# EAGLE library part HC-05 (library HC-05_module)
FEMALE HEADER
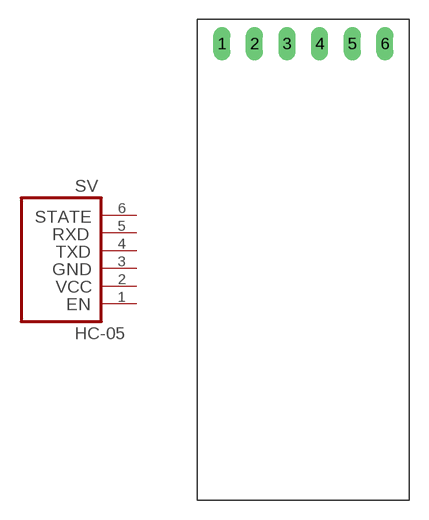
[diagram p0: symbol with the pads of HC-05; footprint HC-05]

Designator prefix SV

## HC-05 (OC_FARNELL: unknown; OC_NEWARK: unknown)  [HC-05]
1  EN  pas
2  VCC  pas
3  GND  pas
4  TXD  pas
5  RXD  pas
6  STATE  pas

## Footprint HC-05 (pad centres in mm)
FEMALE HEADER
drill 0.813 long: 1 -6.35,0; 2 -3.81,0; 3 -1.27,0; 4 1.27,0; 5 3.81,0; 6 6.35,0